# Altium schematic symbol library MOUNT_HOLE.SchLib: 1 symbol
Pins are listed as number, name and electrical type; pins without a type are passive.

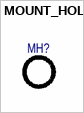
[diagram p0: symbol MOUNT_HOLE]

## MOUNT_HOLE
designator MH?  (value not drawn)  (no BOM)
Крепёжные отверстия
pins: 1